# Altium schematic symbol library ARM_Libary_DIL.SCHLIB: 30 symbols
Pins are listed as number, name and electrical type; pins without a type are passive.

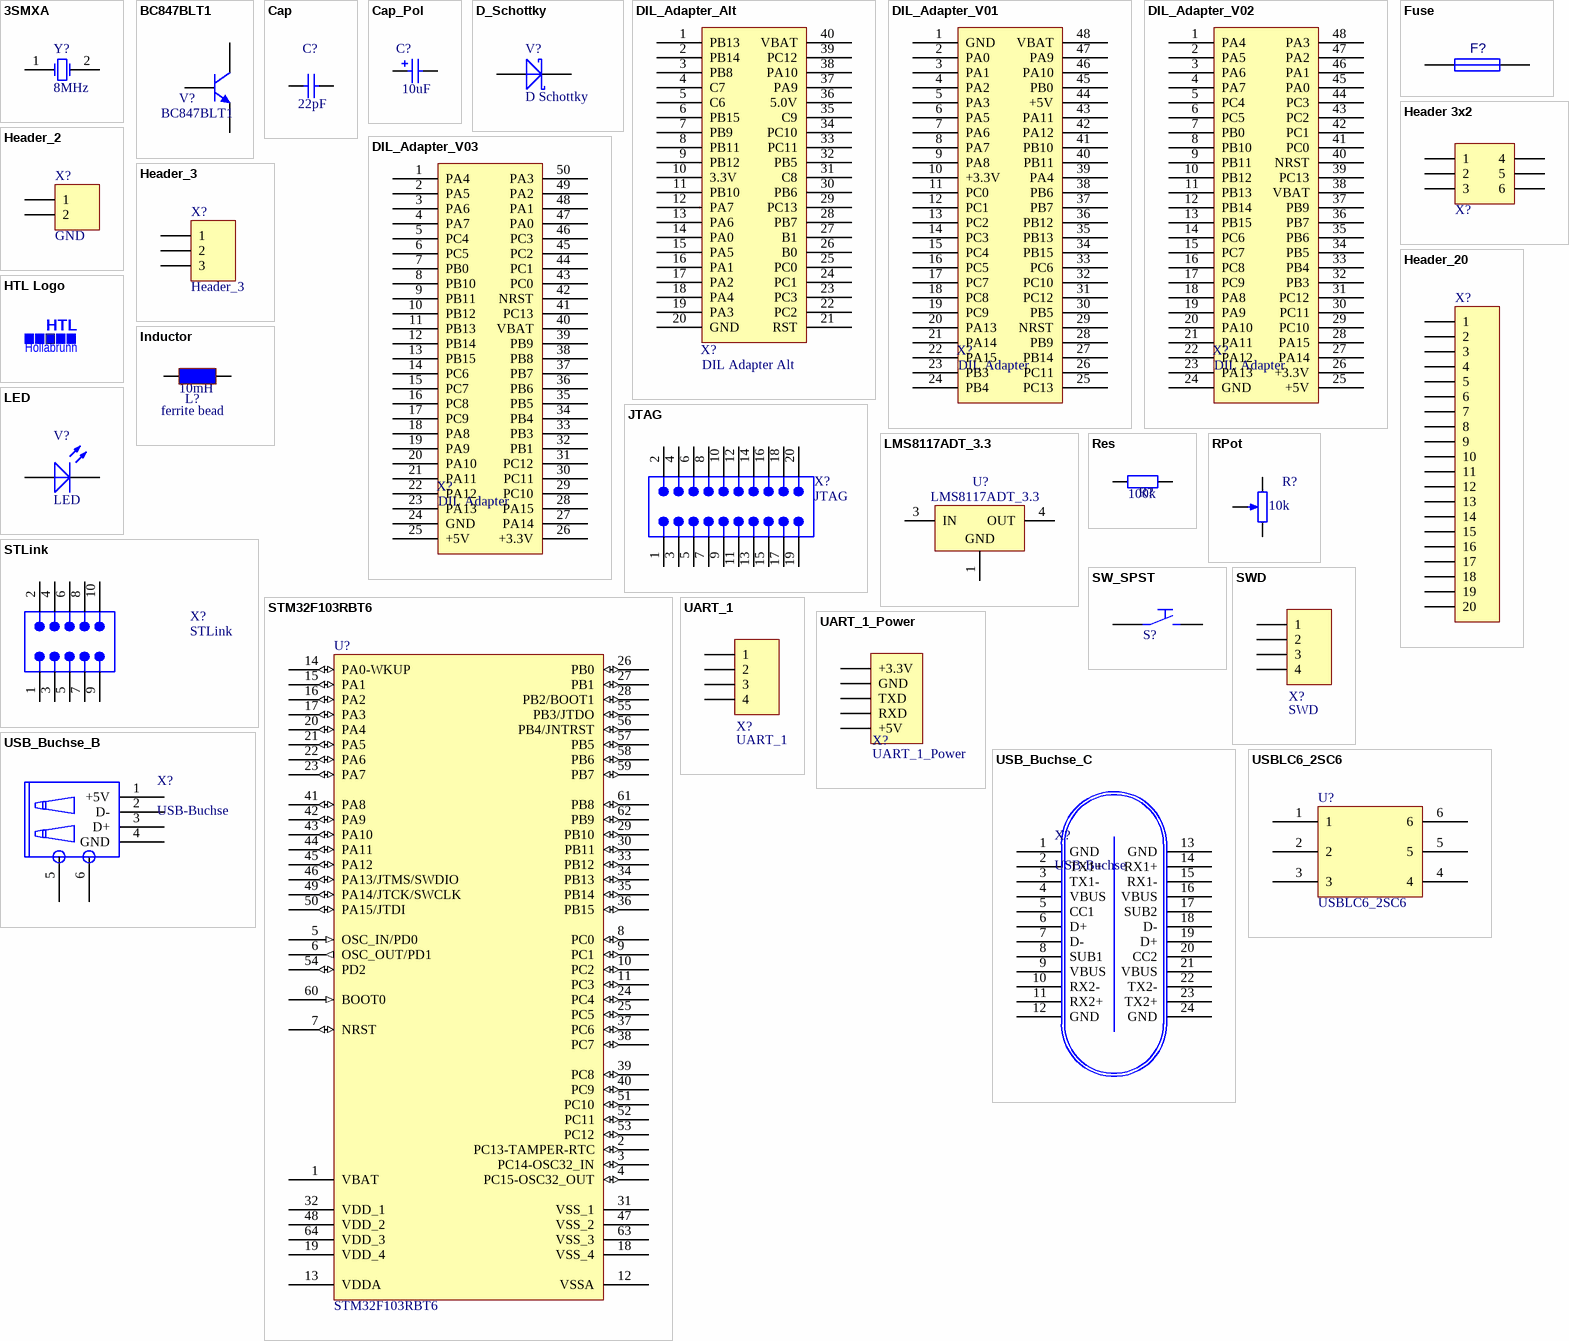
[diagram p0: symbols 3SMXA to USBLC6_2SC6]

## 3SMXA
designator Y?, comment 8MHz
Surface Mount Quartz Crystal; Note: PCB layout complies with manufacturer's recommendation.; Published: 17-Jul-2002; DatasheetDocument: 6-Apr-1998; PackageDocument: 6-Apr-1998; PackageReference: 3SMXA; Publisher: Altium Limited; ComponentLink1Description: Manufacturer Link; ComponentLink1URL: http://www.cmac.com/mt/; ComponentLink2Description: Datasheet; ComponentLink2URL: http://www.cmac.com/mt/databook/crystals/smd/3smx.pdf
footprint Schwingquarz_8MHz_TOP
footprint Schwingquarz_32k
pins: 1 OSC1, 2 OSC2

## BC847BLT1
designator V?
General Purpose Transistor NPN Silicon; Published: 29-Sep-2000; LatestRevisionDate: 17-Jul-2002; LatestRevisionNote: Re-released for DXP Platform.; DatasheetVersion: 1997; PackageVersion: 1997; PackageReference: 318-08; Publisher: Altium Limited; PackageDescription: SOT-23; 3 Leads; Body 3.0 x 2.6 mm, inc. leads (LxW max); ComponentLink1Description: Manufacturer Link; ComponentLink1URL: http://www.onsemi.com/site/products/landing?taxonomyID=194; ComponentLink2Description: Datasheet; ComponentLink2URL: http://www.onsemi.com/pub/Collateral/BC846ALT1-D.PDF
footprint 318_08_Transistor (Transistor)
pins: 1 B, 2 E, 3 C

## Cap
designator C?  value 22pF  (hidden comment: Cap)
Capacitor; Published: 8-Jun-2000; LatestRevisionDate: 17-Jul-2002; LatestRevisionNote: Re-released for DXP Platform.; PackageReference: RAD-0.3; Publisher: Altium Limited
simulation model CAP (Capacitor)
signal-integrity model Cap
footprint 0805_CAP
pins: 1, 2

## Cap_Pol
designator C?, comment value 10uF  (hidden comment: Cap Pol)
Polarized Capacitor; Published: 8-Jun-2000; LatestRevisionDate: 17-Jul-2002; LatestRevisionNote: Re-released for DXP Platform.; PackageReference: RB7.6-15; Publisher: Altium Limited
simulation model CAP (Capacitor)
signal-integrity model Cap Pol
footprint 1411_Cap_Pol
pins: 1, 2
1 alternate drawing of the same symbol

## D_Schottky
designator V?, comment D Schottky
Schottky Diode; Published: 8-Jun-2000; LatestRevisionDate: 17-Jul-2002; LatestRevisionNote: Re-released for DXP Platform.; PackageReference: SMB; Publisher: Altium Limited; Code_JEDEC: DO-214-AA
footprint BAT254_Schottky
pins: 1 A, 2 K

## DIL_Adapter_Alt
designator X?, comment DIL Adapter Alt
footprint DIL_Adapter_Alt (DIL_Adapter)
pins: 1 PB13, 2 PB14, 3 PB8, 4 C7, 5 C6, 6 PB15, 7 PB9, 8 PB11, 9 PB12, 10 3.3V, 11 PB10, 12 PA7, 13 PA6, 14 PA0, 15 PA5, 16 PA1, 17 PA2, 18 PA4, 19 PA3, 20 GND, 21 RST, 22 PC2, 23 PC3, 24 PC1, 25 PC0, 26 B0, 27 B1, 28 PB7, 29 PC13, 30 PB6, 31 C8, 32 PB5, 33 PC11, 34 PC10, 35 C9, 36 5.0V, 37 PA9, 38 PA10, 39 PC12, 40 VBAT

## DIL_Adapter_V01
designator X?, comment DIL Adapter
DIL Adapter 48 Pin
footprint DIL_Adapter_V01 (DIL_Adapter)
pins: 1 GND, 2 PA0, 3 PA1, 4 PA2, 5 PA3, 6 PA5, 7 PA6, 8 PA7, 9 PA8, 10 +3.3V, 11 PC0, 12 PC1, 13 PC2, 14 PC3, 15 PC4, 16 PC5, 17 PC7, 18 PC8, 19 PC9, 20 PA13, 21 PA14, 22 PA15, 23 PB3, 24 PB4, 25 PC13, 26 PC11, 27 PB14, 28 PB9, 29 NRST, 30 PB5, 31 PC12, 32 PC10, 33 PC6, 34 PB15, 35 PB13, 36 PB12, 37 PB7, 38 PB6, 39 PA4, 40 PB11, 41 PB10, 42 PA12, 43 PA11, 44 +5V, 45 PB0, 46 PA10, 47 PA9, 48 VBAT

## DIL_Adapter_V02
designator X?, comment DIL Adapter
DIL Adapter 48 Pin
footprint DIL_Adapter_V02 (DIL_Adapter)
pins: 1 PA4, 2 PA5, 3 PA6, 4 PA7, 5 PC4, 6 PC5, 7 PB0, 8 PB10, 9 PB11, 10 PB12, 11 PB13, 12 PB14, 13 PB15, 14 PC6, 15 PC7, 16 PC8, 17 PC9, 18 PA8, 19 PA9, 20 PA10, 21 PA11, 22 PA12, 23 PA13, 24 GND, 25 +5V, 26 +3.3V, 27 PA14, 28 PA15, 29 PC10, 30 PC11, 31 PC12, 32 PB3, 33 PB4, 34 PB5, 35 PB6, 36 PB7, 37 PB9, 38 VBAT, 39 PC13, 40 NRST, 41 PC0, 42 PC1, 43 PC2, 44 PC3, 45 PA0, 46 PA1, 47 PA2, 48 PA3

## DIL_Adapter_V03
designator X?, comment DIL Adapter
DIL Adapter 50 Pin
footprint DIL_Adapter_V03 (DIL_Adapter)
pins: 1 PA4, 2 PA5, 3 PA6, 4 PA7, 5 PC4, 6 PC5, 7 PB0, 8 PB10, 9 PB11, 10 PB12, 11 PB13, 12 PB14, 13 PB15, 14 PC6, 15 PC7, 16 PC8, 17 PC9, 18 PA8, 19 PA9, 20 PA10, 21 PA11, 22 PA12, 23 PA13, 24 GND, 25 +5V, 26 +3.3V, 27 PA14, 28 PA15, 29 PC10, 30 PC11, 31 PC12, 32 PB1, 33 PB3, 34 PB4, 35 PB5, 36 PB6, 37 PB7, 38 PB8, 39 PB9, 40 VBAT, 41 PC13, 42 NRST, 43 PC0, 44 PC1, 45 PC2, 46 PC3, 47 PA0, 48 PA1, 49 PA2, 50 PA3

## Fuse
designator F?  (value not drawn)
Published: 8-Jun-2000; LatestRevisionDate: 17-Jul-2002; LatestRevisionNote: Re-released for DXP Platform.; PackageReference: PIN-W2/E2.8; Publisher: Altium Limited
footprint Polyfuse
pins: 1, 2

## Header 3x2
designator X?  (value not drawn)
Header, 3-Pin, Dual row; LatestRevisionDate: 17-Jul-2002; LatestRevisionNote: Re-released for DXP Platform.; Publisher: Altium Limited
footprint HDR2X3 (Connector; Header; 3x2 Position)
signal-integrity model Connector
pins: 1, 2, 3, 4, 5, 6

## Header_2
designator X?, comment GND
Header, 2-Pin; LatestRevisionDate: 17-Jul-2002; LatestRevisionNote: Re-released for DXP Platform.; Publisher: Altium Limited
footprint HDR1X2 (Connector; Header; 2 Position)
signal-integrity model Connector
pins: 1, 2

## Header_3
designator X?
Header, 3-Pin; LatestRevisionDate: 17-Jul-2002; LatestRevisionNote: Re-released for DXP Platform.; Publisher: Altium Limited
footprint HDR1X3 (Connector; Header; 3 Position)
signal-integrity model Connector
pins: 1, 2, 3

## Header_20
designator X?  (value not drawn)
Header, 20-Pin; LatestRevisionDate: 17-Jul-2002; LatestRevisionNote: Re-released for DXP Platform.; Publisher: Altium Limited
signal-integrity model Connector
footprint USB_C (SON, 24-Leads, Body 9,93x8,22mm, Pitch 0,50mm, IPC Medium Density)
pins: 1, 2, 3, 4, 5, 6, 7, 8, 9, 10, 11, 12, 13, 14, 15, 16, 17, 18, 19, 20

## HTL Logo
designator Logo, comment HTL Hollabrunn  (value not drawn)
footprint HTL_Logo
footprint HTL_Logo
text: HTL; Hollabrunn

## Inductor
designator L?, comment ferrite bead  value 10mH
Inductor; Code_IEC: 1005; Published: 8-Jun-2000; LatestRevisionDate: 17-Jul-2002; LatestRevisionNote: Re-released for DXP Platform.; PackageReference: 0402-A; Publisher: Altium Limited; Code_JEITA: 0402
simulation model INDUCTOR (Inductor)
signal-integrity model Inductor
footprint AXIAL_0.4_Fuse
footprint 0805_ferrit
pins: 1, 2

## JTAG
designator X?
Flat Cable Connector (IDC), Low-Profile Male Header, Straight Solder Pin, 20 Contacts, Performance Level 2; PCB_Layout: Complies with manufacturer's recommendation.; DrillSize: Corresponds to nominal value.; Published: 15-Nov-2004; DatasheetDocument: Sep-2003; PackageDocument: 01-Feb-2000; PackageReference: 918520x324; Publisher: Altium Limited; ComponentLink1Description: Manufacturer Link; ComponentLink1URL: http://www.harting.com/; ComponentLink2Description: Selection Guide; ComponentLink2URL: http://www.harting.com/imperia/md/content/steckverbinderundsystemkomponenten/folder/interface_engl_chapter_09.pdf
footprint HDR2X10_JTAG
pins: 1, 2, 3, 4, 5, 6, 7, 8, 9, 10, 11, 12, 13, 14, 15, 16, 17, 18, 19, 20

## LED
designator V?
Typical RED, GREEN, YELLOW, AMBER GaAs LED; Published: 8-Jun-2000; LatestRevisionDate: 17-Jul-2002; LatestRevisionNote: Re-released for DXP Platform.; PackageDocument: Feb-2002; PackageReference: 3.2X1.6X1.1; Publisher: Altium Limited
footprint 0805_LED
pins: 1 A, 2 K

## LMS8117ADT_3.3
designator U?
1A Low-Dropout Linear Regulator; PartNumber: LMS8117ADT-3.3; Manufacturer: National Semiconductor; CompType: LDO IC; PackageTopMarking: NSUZXYTT*LMS8117*ADT-3.3; PowerWise: N; Published: 4-Dec-2008; DatasheetVersion: Apr-2005; PackageVersion: revC, Apr-2003; PackageReference: TD03B; Publisher: Altium Limited; PackageDescription: TO252, Molded, Jedec, 6.8 x 6.10 x 2.30mm Body, 3 Lead, 2.28mm Pitch, Surface Mount; RoHS: O; PinCount: 3; DigiKeyPartNumber: LMS8117ADT-3.3-ND; Code_JEDEC: TO-252-AA; ComponentLink1Description: LMS8117A Datasheet; ComponentLink1URL: http://www.national.com/ds/LM/LMS8117A.pdf; ComponentLink2Description: LMS8117A Web Page; ComponentLink2URL: http://www.national.com/pf/LM/LMS8117A.html; ComponentLink3Description: TD03B Package Page; ComponentLink3URL: http://www.national.com/packaging/folders/td03b.html
footprint TD03B_N_Low_Dropout_Regulator
pins: 1 GND (power), 3 IN (power), 4 OUT (power)

## Res
designator R?  value 100k  (hidden comment: Res)
Resistor; Published: 8-Jun-2000; LatestRevisionDate: 17-Jul-2002; LatestRevisionNote: Re-released for DXP Platform.; PackageReference: AXIAL-0.4; Publisher: Altium Limited
simulation model RESISTOR (Resistor)
signal-integrity model Res
footprint 0805_Res
pins: 1, 2

## RPot
designator R?  value 10k  (hidden comment: RPot)
Potentiometer; Sim Note: Enter the Resistance value and the set point into parameter fields.; Set Position: 0.5; Published: 8-Jun-2000; LatestRevisionDate: 17-Jul-2002; LatestRevisionNote: Re-released for DXP Platform.; PackageReference: VR5; Publisher: Altium Limited
simulation model POT (Potentiometer)
footprint Potentiometer
pins: 1 TOP, 2 BOT, 3 TAP
1 alternate drawing of the same symbol

## STLink
designator X?
Flat Cable Connector (IDC), Low-Profile Male Header, Straight Solder Pin, 20 Contacts, Performance Level 2; PCB_Layout: Complies with manufacturer's recommendation.; DrillSize: Corresponds to nominal value.; Published: 15-Nov-2004; DatasheetDocument: Sep-2003; PackageDocument: 01-Feb-2000; PackageReference: 918520x324; Publisher: Altium Limited; ComponentLink1Description: Manufacturer Link; ComponentLink1URL: http://www.harting.com/; ComponentLink2Description: Selection Guide; ComponentLink2URL: http://www.harting.com/imperia/md/content/steckverbinderundsystemkomponenten/folder/interface_engl_chapter_09.pdf
footprint HDR2X5_STLink
pins: 1, 2, 3, 4, 5, 6, 7, 8, 9, 10

## STM32F103RBT6
designator U?
STM32 ARM-based 32-bit MCU with 128 Kbytes Flash, 64-pin LQFP, Industrial Temperature; Published: 30-May-2008; DatasheetVersion: rev6, Mar-2008; PackageVersion: Mar-2008; PackageReference: LQFP64; Publisher: Altium Limited; PackageDescription: 64-Pin Low-Profile Quad Flat Pack, 10 x 10 mm Body, 0.5 mm Pitch (LQFP64); ComponentLink1Description: Manufacturer Link; ComponentLink1URL: www.st.com/stm32; ComponentLink2Description: Datasheet; ComponentLink2URL: http://www.st.com/stonline/products/literature/ds/13587.pdf
footprint STM32F103RBT6 (Processor)
pins: 1 VBAT (power), 2 PC13-TAMPER-RTC (io), 3 PC14-OSC32_IN (io), 4 PC15-OSC32_OUT (io), 5 OSC_IN/PD0 (in), 6 OSC_OUT/PD1 (out), 7 NRST (io), 8 PC0 (io), 9 PC1 (io), 10 PC2 (io), 11 PC3 (io), 12 VSSA (power), 13 VDDA (power), 14 PA0-WKUP (io), 15 PA1 (io), 16 PA2 (io), 17 PA3 (io), 18 VSS_4 (power), 19 VDD_4 (power), 20 PA4 (io), 21 PA5 (io), 22 PA6 (io), 23 PA7 (io), 24 PC4 (io), 25 PC5 (io), 26 PB0 (io), 27 PB1 (io), 28 PB2/BOOT1 (io), 29 PB10 (io), 30 PB11 (io), 31 VSS_1 (power), 32 VDD_1 (power), 33 PB12 (io), 34 PB13 (io), 35 PB14 (io), 36 PB15 (io), 37 PC6 (io), 38 PC7 (io), 39 PC8 (io), 40 PC9 (io), 41 PA8 (io), 42 PA9 (io), 43 PA10 (io), 44 PA11 (io), 45 PA12 (io), 46 PA13/JTMS/SWDIO (io), 47 VSS_2 (power), 48 VDD_2 (power), 49 PA14/JTCK/SWCLK (io), 50 PA15/JTDI (io), 51 PC10 (io), 52 PC11 (io), 53 PC12 (io), 54 PD2 (io), 55 PB3/JTDO (io), 56 PB4/JNTRST (io), 57 PB5 (io), 58 PB6 (io), 59 PB7 (io), 60 BOOT0 (in), 61 PB8 (io), 62 PB9 (io), 63 VSS_3 (power), 64 VDD_3 (power)

## SW_SPST
designator S?  (value not drawn)
Single-Pole, Single-Throw Switch; Published: 24-Mar-1999; LatestRevisionDate: 17-Jul-2002; LatestRevisionNote: Re-released for DXP Platform.; PackageReference: SPST-2; Publisher: Altium Limited
footprint Printtaster (Printtaster - 4polig)
pins: 1 COMMON, 2 NO

## SWD
designator X?
Header, 4-Pin; LatestRevisionDate: 17-Jul-2002; LatestRevisionNote: Re-released for DXP Platform.; Publisher: Altium Limited
footprint HDR1X4_SWD (Footprint not found)
signal-integrity model Connector
pins: 1, 2, 3, 4

## UART_1
designator X?
Header, 4-Pin; LatestRevisionDate: 17-Jul-2002; LatestRevisionNote: Re-released for DXP Platform.; Publisher: Altium Limited
footprint HDR1X4_UART
signal-integrity model Connector
pins: 1, 2, 3, 4

## UART_1_Power
designator X?
Header, 5-Pin; LatestRevisionDate: 17-Jul-2002; LatestRevisionNote: Re-released for DXP Platform.; Publisher: Altium Limited
footprint HDR1X4_UART_Power
signal-integrity model Connector
pins: 1 +3.3V, 2 GND, 3 TXD, 4 RXD, 5 +5V

## USB_Buchse_B
designator X?, comment USB-Buchse
USB Buchse (B)
footprint USB_B (USB-B_Buchse)
pins: 1 +5V, 2 D-, 3 D+, 4 GND, 5 GND, 6 GND

## USB_Buchse_C
designator X?, comment USB-Buchse
USB Buchse (C)
footprint USB_C (SON, 24-Leads, Body 9,93x8,22mm, Pitch 0,50mm, IPC Medium Density)
pins: 1 GND, 2 TX1+, 3 TX1-, 4 VBUS, 5 CC1, 6 D+, 7 D-, 8 SUB1, 9 VBUS, 10 RX2-, 11 RX2+, 12 GND, 13 GND, 14 RX1+, 15 RX1-, 16 VBUS, 17 SUB2, 18 D-, 19 D+, 20 CC2, 21 VBUS, 22 TX2-, 23 TX2+, 24 GND

## USBLC6_2SC6
designator U?
ESD-Protection
footprint SOT95P280X145_6N_ESD_Protection
pins: 1, 2, 3, 4, 5, 6